# Altium integrated library RA-01.IntLib: 1 symbol
Pins are listed as number, name and electrical type; pins without a type are passive.

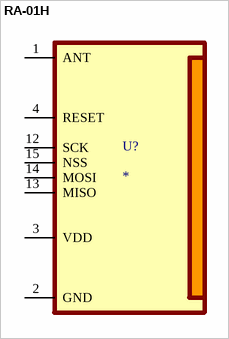
[diagram p0: symbol RA-01H]

## RA-01H
designator U?
footprint XCVR_RA-01H
pins: 1 ANT, 2 GND, 3 VDD, 4 RESET, 12 SCK, 13 MISO, 14 MOSI, 15 NSS